# Altium schematic symbol library Regulator_Switching.SchLib: 1279 symbols (part 5 of 14)
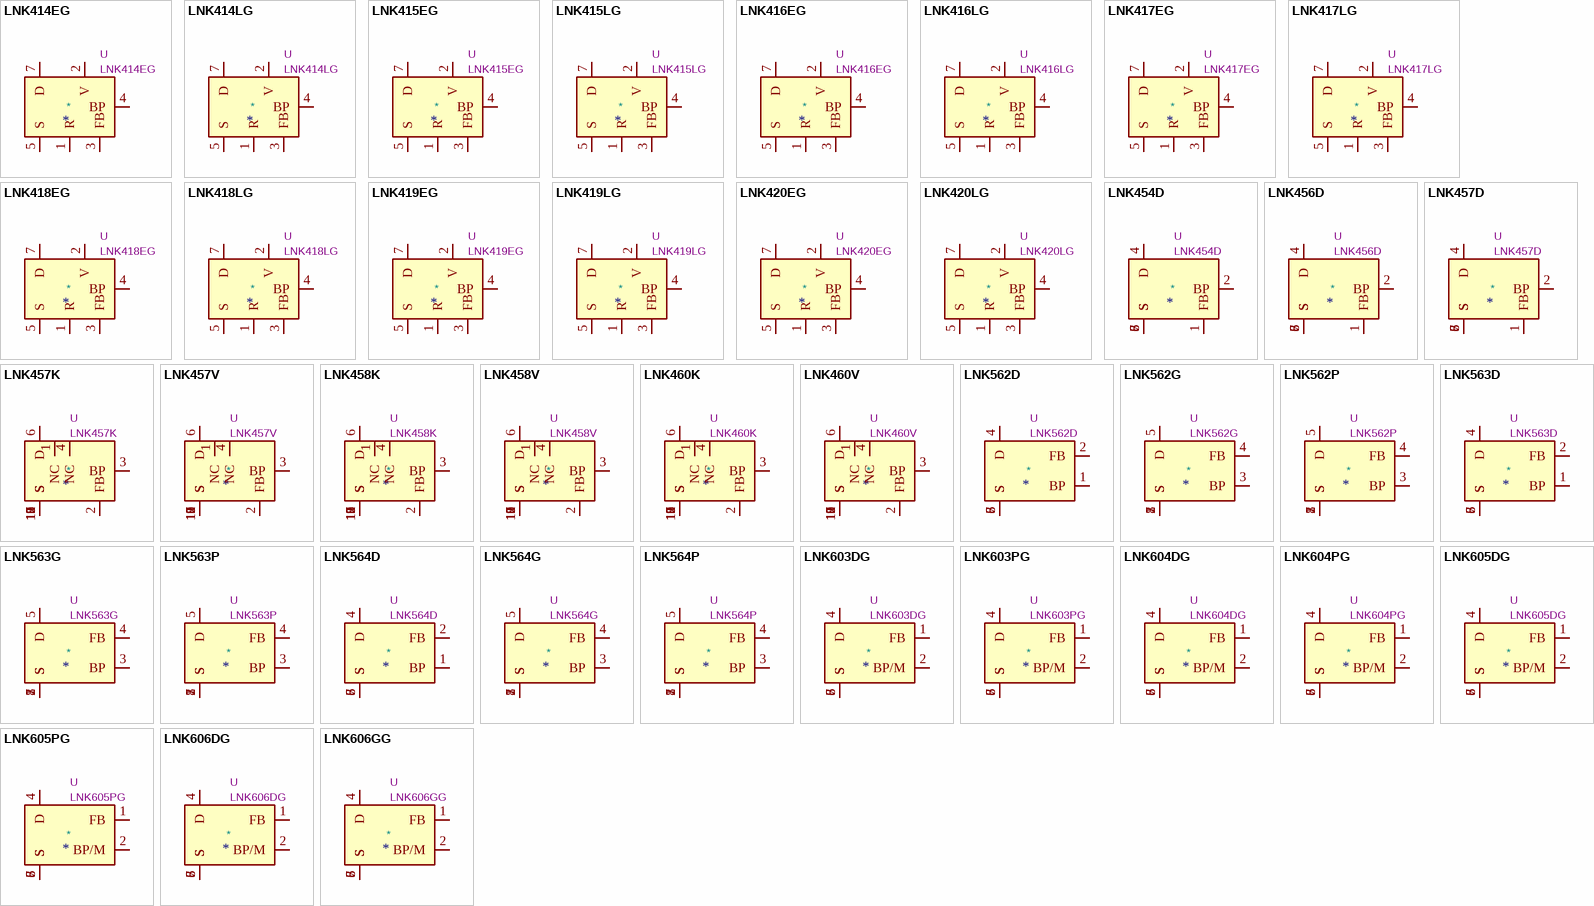
[diagram p36: symbols LNK414EG to LNK606GG]

## LNK416LG
designator *  value LNK416LG  Reference: U
LinkSwitch-PH Family, 22W Output Power, eSIP-7F; ki_keywords: LED Driver IC, Single-Stage PFC and Primary-Side Constant Current Control; ki_fp_filters: PowerIntegrations?eSIP?7F*; Footprint: Package_SIP:PowerIntegrations_eSIP-7F; Datasheet: http://www.powerint.com/sites/default/files/product-docs/linkswitch-ph_family_datasheet.pdf; Description_: LinkSwitch-PH Family, 22W Output Power, eSIP-7F
pins: 1 R, 2 V, 3 FB, 4 BP, 5 S, 7 D

## LNK417EG
designator *  value LNK417EG  Reference: U
LinkSwitch-PH Family, 25W Output Power, eSIP-7C; ki_keywords: LED Driver IC, Single-Stage PFC and Primary-Side Constant Current Control; ki_fp_filters: PowerIntegrations?eSIP?7C*; Footprint: Package_SIP:PowerIntegrations_eSIP-7C; Datasheet: http://www.powerint.com/sites/default/files/product-docs/linkswitch-ph_family_datasheet.pdf; Description_: LinkSwitch-PH Family, 25W Output Power, eSIP-7C
pins: 1 R, 2 V, 3 FB, 4 BP, 5 S, 7 D

## LNK417LG
designator *  value LNK417LG  Reference: U
LinkSwitch-PH Family, 25W Output Power, eSIP-7F; ki_keywords: LED Driver IC, Single-Stage PFC and Primary-Side Constant Current Control; ki_fp_filters: PowerIntegrations?eSIP?7F*; Footprint: Package_SIP:PowerIntegrations_eSIP-7F; Datasheet: http://www.powerint.com/sites/default/files/product-docs/linkswitch-ph_family_datasheet.pdf; Description_: LinkSwitch-PH Family, 25W Output Power, eSIP-7F
pins: 1 R, 2 V, 3 FB, 4 BP, 5 S, 7 D

## LNK418EG
designator *  value LNK418EG  Reference: U
LinkSwitch-PH Family, 35W Output Power, eSIP-7C; ki_keywords: LED Driver IC, Single-Stage PFC and Primary-Side Constant Current Control; ki_fp_filters: PowerIntegrations?eSIP?7C*; Footprint: Package_SIP:PowerIntegrations_eSIP-7C; Datasheet: http://www.powerint.com/sites/default/files/product-docs/linkswitch-ph_family_datasheet.pdf; Description_: LinkSwitch-PH Family, 35W Output Power, eSIP-7C
pins: 1 R, 2 V, 3 FB, 4 BP, 5 S, 7 D

## LNK418LG
designator *  value LNK418LG  Reference: U
LinkSwitch-PH Family, 35W Output Power, eSIP-7F; ki_keywords: LED Driver IC, Single-Stage PFC and Primary-Side Constant Current Control; ki_fp_filters: PowerIntegrations?eSIP?7F*; Footprint: Package_SIP:PowerIntegrations_eSIP-7F; Datasheet: http://www.powerint.com/sites/default/files/product-docs/linkswitch-ph_family_datasheet.pdf; Description_: LinkSwitch-PH Family, 35W Output Power, eSIP-7F
pins: 1 R, 2 V, 3 FB, 4 BP, 5 S, 7 D

## LNK419EG
designator *  value LNK419EG  Reference: U
LinkSwitch-PH Family, 50W Output Power, eSIP-7C; ki_keywords: LED Driver IC, Single-Stage PFC and Primary-Side Constant Current Control; ki_fp_filters: PowerIntegrations?eSIP?7C*; Footprint: Package_SIP:PowerIntegrations_eSIP-7C; Datasheet: http://www.powerint.com/sites/default/files/product-docs/linkswitch-ph_family_datasheet.pdf; Description_: LinkSwitch-PH Family, 50W Output Power, eSIP-7C
pins: 1 R, 2 V, 3 FB, 4 BP, 5 S, 7 D

## LNK419LG
designator *  value LNK419LG  Reference: U
LinkSwitch-PH Family, 50W Output Power, eSIP-7F; ki_keywords: LED Driver IC, Single-Stage PFC and Primary-Side Constant Current Control; ki_fp_filters: PowerIntegrations?eSIP?7F*; Footprint: Package_SIP:PowerIntegrations_eSIP-7F; Datasheet: http://www.powerint.com/sites/default/files/product-docs/linkswitch-ph_family_datasheet.pdf; Description_: LinkSwitch-PH Family, 50W Output Power, eSIP-7F
pins: 1 R, 2 V, 3 FB, 4 BP, 5 S, 7 D

## LNK420EG
designator *  value LNK420EG  Reference: U
LinkSwitch-PH Family, 78W Output Power, eSIP-7C; ki_keywords: LED Driver IC, Single-Stage PFC and Primary-Side Constant Current Control; ki_fp_filters: PowerIntegrations?eSIP?7C*; Footprint: Package_SIP:PowerIntegrations_eSIP-7C; Datasheet: http://www.powerint.com/sites/default/files/product-docs/linkswitch-ph_family_datasheet.pdf; Description_: LinkSwitch-PH Family, 78W Output Power, eSIP-7C
pins: 1 R, 2 V, 3 FB, 4 BP, 5 S, 7 D

## LNK420LG
designator *  value LNK420LG  Reference: U
LinkSwitch-PH Family, 78W Output Power, eSIP-7F; ki_keywords: LED Driver IC, Single-Stage PFC and Primary-Side Constant Current Control; ki_fp_filters: PowerIntegrations?eSIP?7F*; Footprint: Package_SIP:PowerIntegrations_eSIP-7F; Datasheet: http://www.powerint.com/sites/default/files/product-docs/linkswitch-ph_family_datasheet.pdf; Description_: LinkSwitch-PH Family, 78W Output Power, eSIP-7F
pins: 1 R, 2 V, 3 FB, 4 BP, 5 S, 7 D

## LNK454D
designator *  value LNK454D  Reference: U
LinkSwitch-PL Family, 3W Output Power, SO-8C; ki_keywords: LED Driver IC with TRIAC Dimming, Single-Stage PFC and Constant Current Control for Non-Isolated Applications; ki_fp_filters: PowerIntegrations?SO?8C*; Footprint: Package_SO:PowerIntegrations_SO-8C; Datasheet: http://www.powerint.com/sites/default/files/product-docs/linkswitch-pl_family_datasheet.pdf; Description_: LinkSwitch-PL Family, 3W Output Power, SO-8C
pins: 1 FB, 2 BP, 4 D, 5 S, 6 S, 7 S, 8 S

## LNK456D
designator *  value LNK456D  Reference: U
LinkSwitch-PL Family, 6W Output Power, SO-8C; ki_keywords: LED Driver IC with TRIAC Dimming, Single-Stage PFC and Constant Current Control for Non-Isolated Applications; ki_fp_filters: PowerIntegrations?SO?8C*; Footprint: Package_SO:PowerIntegrations_SO-8C; Datasheet: http://www.powerint.com/sites/default/files/product-docs/linkswitch-pl_family_datasheet.pdf; Description_: LinkSwitch-PL Family, 6W Output Power, SO-8C
pins: 1 FB, 2 BP, 4 D, 5 S, 6 S, 7 S, 8 S

## LNK457D
designator *  value LNK457D  Reference: U
LinkSwitch-PL Family, 8W Output Power, SO-8C; ki_keywords: LED Driver IC with TRIAC Dimming, Single-Stage PFC and Constant Current Control for Non-Isolated Applications; ki_fp_filters: PowerIntegrations?SO?8C*; Footprint: Package_SO:PowerIntegrations_SO-8C; Datasheet: http://www.powerint.com/sites/default/files/product-docs/linkswitch-pl_family_datasheet.pdf; Description_: LinkSwitch-PL Family, 8W Output Power, SO-8C
pins: 1 FB, 2 BP, 4 D, 5 S, 6 S, 7 S, 8 S

## LNK457K
designator *  value LNK457K  Reference: U
LinkSwitch-PL Family, 8W Output Power, eSOP-12B; ki_keywords: LED Driver IC with TRIAC Dimming, Single-Stage PFC and Constant Current Control for Non-Isolated Applications; ki_fp_filters: PowerIntegrations?eSOP?12B*; Footprint: Package_SO:PowerIntegrations_eSOP-12B; Datasheet: http://www.powerint.com/sites/default/files/product-docs/linkswitch-pl_family_datasheet.pdf; Description_: LinkSwitch-PL Family, 8W Output Power, eSOP-12B
pins: 1 NC, 2 FB, 3 BP, 4 NC, 6 D, 7 S, 8 S, 9 S, 10 S, 11 S, 12 S, 13 S

## LNK457V
designator *  value LNK457V  Reference: U
LinkSwitch-PL Family, 8W Output Power, eDIP-12B; ki_keywords: LED Driver IC with TRIAC Dimming, Single-Stage PFC and Constant Current Control for Non-Isolated Applications; ki_fp_filters: PowerIntegrations?eDIP?12B*; Footprint: Package_DIP:PowerIntegrations_eDIP-12B; Datasheet: http://www.powerint.com/sites/default/files/product-docs/linkswitch-pl_family_datasheet.pdf; Description_: LinkSwitch-PL Family, 8W Output Power, eDIP-12B
pins: 1 NC, 2 FB, 3 BP, 4 NC, 6 D, 7 S, 8 S, 9 S, 10 S, 11 S, 12 S

## LNK458K
designator *  value LNK458K  Reference: U
LinkSwitch-PL Family, 11.5W Output Power, eSOP-12B; ki_keywords: LED Driver IC with TRIAC Dimming, Single-Stage PFC and Constant Current Control for Non-Isolated Applications; ki_fp_filters: PowerIntegrations?eSOP?12B*; Footprint: Package_SO:PowerIntegrations_eSOP-12B; Datasheet: http://www.powerint.com/sites/default/files/product-docs/linkswitch-pl_family_datasheet.pdf; Description_: LinkSwitch-PL Family, 11.5W Output Power, eSOP-12B
pins: 1 NC, 2 FB, 3 BP, 4 NC, 6 D, 7 S, 8 S, 9 S, 10 S, 11 S, 12 S, 13 S

## LNK458V
designator *  value LNK458V  Reference: U
LinkSwitch-PL Family, 8W Output Power, eDIP-12B; ki_keywords: LED Driver IC with TRIAC Dimming, Single-Stage PFC and Constant Current Control for Non-Isolated Applications; ki_fp_filters: PowerIntegrations?eDIP?12B*; Footprint: Package_DIP:PowerIntegrations_eDIP-12B; Datasheet: http://www.powerint.com/sites/default/files/product-docs/linkswitch-pl_family_datasheet.pdf; Description_: LinkSwitch-PL Family, 8W Output Power, eDIP-12B
pins: 1 NC, 2 FB, 3 BP, 4 NC, 6 D, 7 S, 8 S, 9 S, 10 S, 11 S, 12 S

## LNK460K
designator *  value LNK460K  Reference: U
LinkSwitch-PL Family, 16W Output Power, eSOP-12B; ki_keywords: LED Driver IC with TRIAC Dimming, Single-Stage PFC and Constant Current Control for Non-Isolated Applications; ki_fp_filters: PowerIntegrations?eSOP?12B*; Footprint: Package_SO:PowerIntegrations_eSOP-12B; Datasheet: http://www.powerint.com/sites/default/files/product-docs/linkswitch-pl_family_datasheet.pdf; Description_: LinkSwitch-PL Family, 16W Output Power, eSOP-12B
pins: 1 NC, 2 FB, 3 BP, 4 NC, 6 D, 7 S, 8 S, 9 S, 10 S, 11 S, 12 S, 13 S

## LNK460V
designator *  value LNK460V  Reference: U
LinkSwitch-PL Family, 8W Output Power, eDIP-12B; ki_keywords: LED Driver IC with TRIAC Dimming, Single-Stage PFC and Constant Current Control for Non-Isolated Applications; ki_fp_filters: PowerIntegrations?eDIP?12B*; Footprint: Package_DIP:PowerIntegrations_eDIP-12B; Datasheet: http://www.powerint.com/sites/default/files/product-docs/linkswitch-pl_family_datasheet.pdf; Description_: LinkSwitch-PL Family, 8W Output Power, eDIP-12B
pins: 1 NC, 2 FB, 3 BP, 4 NC, 6 D, 7 S, 8 S, 9 S, 10 S, 11 S, 12 S

## LNK562D
designator *  value LNK562D  Reference: U
LinkSwitch-LP Family, 1.9W Output Power, SO-8C; ki_keywords: Energy Efficient Off-Line Switcher IC for Linear Transformer Replacement; ki_fp_filters: PowerIntegrations?SO?8C*; Footprint: Package_SO:PowerIntegrations_SO-8C; Datasheet: http://www.powerint.com/sites/default/files/product-docs/linklp_family_datasheet.pdf; Description_: LinkSwitch-LP Family, 1.9W Output Power, SO-8C
pins: 1 BP, 2 FB, 4 D, 5 S, 6 S, 7 S, 8 S

## LNK562G
designator *  value LNK562G  Reference: U
LinkSwitch-LP Family, 1.9W Output Power, SMD-8B; ki_keywords: Energy Efficient Off-Line Switcher IC for Linear Transformer Replacement; ki_fp_filters: PowerIntegrations?SMD?8B*; Footprint: Package_DIP:PowerIntegrations_SMD-8B; Datasheet: http://www.powerint.com/sites/default/files/product-docs/linklp_family_datasheet.pdf; Description_: LinkSwitch-LP Family, 1.9W Output Power, SMD-8B
pins: 1 S, 2 S, 3 BP, 4 FB, 5 D, 7 S, 8 S

## LNK562P
designator *  value LNK562P  Reference: U
LinkSwitch-LP Family, 1.9W Output Power, DIP-8B; ki_keywords: Energy Efficient Off-Line Switcher IC for Linear Transformer Replacement; ki_fp_filters: PowerIntegrations?PDIP?8B*; Footprint: Package_DIP:PowerIntegrations_PDIP-8B; Datasheet: http://www.powerint.com/sites/default/files/product-docs/linklp_family_datasheet.pdf; Description_: LinkSwitch-LP Family, 1.9W Output Power, DIP-8B
pins: 1 S, 2 S, 3 BP, 4 FB, 5 D, 7 S, 8 S

## LNK563D
designator *  value LNK563D  Reference: U
LinkSwitch-LP Family, 2.5W Output Power, SO-8C; ki_keywords: Energy Efficient Off-Line Switcher IC for Linear Transformer Replacement; ki_fp_filters: PowerIntegrations?SO?8C*; Footprint: Package_SO:PowerIntegrations_SO-8C; Datasheet: http://www.powerint.com/sites/default/files/product-docs/linklp_family_datasheet.pdf; Description_: LinkSwitch-LP Family, 2.5W Output Power, SO-8C
pins: 1 BP, 2 FB, 4 D, 5 S, 6 S, 7 S, 8 S

## LNK563G
designator *  value LNK563G  Reference: U
LinkSwitch-LP Family, 2.5W Output Power, SMD-8B; ki_keywords: Energy Efficient Off-Line Switcher IC for Linear Transformer Replacement; ki_fp_filters: PowerIntegrations?SMD?8B*; Footprint: Package_DIP:PowerIntegrations_SMD-8B; Datasheet: http://www.powerint.com/sites/default/files/product-docs/linklp_family_datasheet.pdf; Description_: LinkSwitch-LP Family, 2.5W Output Power, SMD-8B
pins: 1 S, 2 S, 3 BP, 4 FB, 5 D, 7 S, 8 S

## LNK563P
designator *  value LNK563P  Reference: U
LinkSwitch-LP Family, 2.5W Output Power, DIP-8B; ki_keywords: Energy Efficient Off-Line Switcher IC for Linear Transformer Replacement; ki_fp_filters: PowerIntegrations?PDIP?8B*; Footprint: Package_DIP:PowerIntegrations_PDIP-8B; Datasheet: http://www.powerint.com/sites/default/files/product-docs/linklp_family_datasheet.pdf; Description_: LinkSwitch-LP Family, 2.5W Output Power, DIP-8B
pins: 1 S, 2 S, 3 BP, 4 FB, 5 D, 7 S, 8 S

## LNK564D
designator *  value LNK564D  Reference: U
LinkSwitch-LP Family, 3W Output Power, SO-8C; ki_keywords: Energy Efficient Off-Line Switcher IC for Linear Transformer Replacement; ki_fp_filters: PowerIntegrations?SO?8C*; Footprint: Package_SO:PowerIntegrations_SO-8C; Datasheet: http://www.powerint.com/sites/default/files/product-docs/linklp_family_datasheet.pdf; Description_: LinkSwitch-LP Family, 3W Output Power, SO-8C
pins: 1 BP, 2 FB, 4 D, 5 S, 6 S, 7 S, 8 S

## LNK564G
designator *  value LNK564G  Reference: U
LinkSwitch-LP Family, 3W Output Power, SMD-8B; ki_keywords: Energy Efficient Off-Line Switcher IC for Linear Transformer Replacement; ki_fp_filters: PowerIntegrations?SMD?8B*; Footprint: Package_DIP:PowerIntegrations_SMD-8B; Datasheet: http://www.powerint.com/sites/default/files/product-docs/linklp_family_datasheet.pdf; Description_: LinkSwitch-LP Family, 3W Output Power, SMD-8B
pins: 1 S, 2 S, 3 BP, 4 FB, 5 D, 7 S, 8 S

## LNK564P
designator *  value LNK564P  Reference: U
LinkSwitch-LP Family, 3W Output Power, DIP-8B; ki_keywords: Energy Efficient Off-Line Switcher IC for Linear Transformer Replacement; ki_fp_filters: PowerIntegrations?PDIP?8B*; Footprint: Package_DIP:PowerIntegrations_PDIP-8B; Datasheet: http://www.powerint.com/sites/default/files/product-docs/linklp_family_datasheet.pdf; Description_: LinkSwitch-LP Family, 3W Output Power, DIP-8B
pins: 1 S, 2 S, 3 BP, 4 FB, 5 D, 7 S, 8 S

## LNK603DG
designator *  value LNK603DG  Reference: U
LinkSwitch-II Family, 3.3W Output Power, SO-8C; ki_keywords: Energy-Efficient, Accurate CV/CC Switcher for Adapters and Chargers; ki_fp_filters: PowerIntegrations?SO?8C*; Footprint: Package_SO:PowerIntegrations_SO-8C; Datasheet: http://www.powerint.com/sites/default/files/product-docs/linkswitch-ii_family_datasheet.pdf; Description_: LinkSwitch-II Family, 3.3W Output Power, SO-8C
pins: 1 FB, 2 BP/M, 4 D, 5 S, 6 S, 7 S, 8 S

## LNK603PG
designator *  value LNK603PG  Reference: U
LinkSwitch-II Family, 3.3W Output Power, DIP-8C; ki_keywords: Energy-Efficient, Accurate CV/CC Switcher for Adapters and Chargers; ki_fp_filters: PowerIntegrations?PDIP?8C*; Footprint: Package_DIP:PowerIntegrations_PDIP-8C; Datasheet: http://www.powerint.com/sites/default/files/product-docs/linkswitch-ii_family_datasheet.pdf; Description_: LinkSwitch-II Family, 3.3W Output Power, DIP-8C
pins: 1 FB, 2 BP/M, 4 D, 5 S, 6 S, 7 S, 8 S

## LNK604DG
designator *  value LNK604DG  Reference: U
LinkSwitch-II Family, 4.1W Output Power, SO-8C; ki_keywords: Energy-Efficient, Accurate CV/CC Switcher for Adapters and Chargers; ki_fp_filters: PowerIntegrations?SO?8C*; Footprint: Package_SO:PowerIntegrations_SO-8C; Datasheet: http://www.powerint.com/sites/default/files/product-docs/linkswitch-ii_family_datasheet.pdf; Description_: LinkSwitch-II Family, 4.1W Output Power, SO-8C
pins: 1 FB, 2 BP/M, 4 D, 5 S, 6 S, 7 S, 8 S

## LNK604PG
designator *  value LNK604PG  Reference: U
LinkSwitch-II Family, 4.1W Output Power, DIP-8C; ki_keywords: Energy-Efficient, Accurate CV/CC Switcher for Adapters and Chargers; ki_fp_filters: PowerIntegrations?PDIP?8C*; Footprint: Package_DIP:PowerIntegrations_PDIP-8C; Datasheet: http://www.powerint.com/sites/default/files/product-docs/linkswitch-ii_family_datasheet.pdf; Description_: LinkSwitch-II Family, 4.1W Output Power, DIP-8C
pins: 1 FB, 2 BP/M, 4 D, 5 S, 6 S, 7 S, 8 S

## LNK605DG
designator *  value LNK605DG  Reference: U
LinkSwitch-II Family, 5.1W Output Power, SO-8C; ki_keywords: Energy-Efficient, Accurate CV/CC Switcher for Adapters and Chargers; ki_fp_filters: PowerIntegrations?SO?8C*; Footprint: Package_SO:PowerIntegrations_SO-8C; Datasheet: http://www.powerint.com/sites/default/files/product-docs/linkswitch-ii_family_datasheet.pdf; Description_: LinkSwitch-II Family, 5.1W Output Power, SO-8C
pins: 1 FB, 2 BP/M, 4 D, 5 S, 6 S, 7 S, 8 S

## LNK605PG
designator *  value LNK605PG  Reference: U
LinkSwitch-II Family, 5.1W Output Power, DIP-8C; ki_keywords: Energy-Efficient, Accurate CV/CC Switcher for Adapters and Chargers; ki_fp_filters: PowerIntegrations?PDIP?8C*; Footprint: Package_DIP:PowerIntegrations_PDIP-8C; Datasheet: http://www.powerint.com/sites/default/files/product-docs/linkswitch-ii_family_datasheet.pdf; Description_: LinkSwitch-II Family, 5.1W Output Power, DIP-8C
pins: 1 FB, 2 BP/M, 4 D, 5 S, 6 S, 7 S, 8 S

## LNK606DG
designator *  value LNK606DG  Reference: U
LinkSwitch-II Family, 6.1W Output Power, SO-8C; ki_keywords: Energy-Efficient, Accurate CV/CC Switcher for Adapters and Chargers; ki_fp_filters: PowerIntegrations?SO?8C*; Footprint: Package_SO:PowerIntegrations_SO-8C; Datasheet: http://www.powerint.com/sites/default/files/product-docs/linkswitch-ii_family_datasheet.pdf; Description_: LinkSwitch-II Family, 6.1W Output Power, SO-8C
pins: 1 FB, 2 BP/M, 4 D, 5 S, 6 S, 7 S, 8 S

## LNK606GG
designator *  value LNK606GG  Reference: U
LinkSwitch-II Family, 6.1W Output Power, SMD-8C; ki_keywords: Energy-Efficient, Accurate CV/CC Switcher for Adapters and Chargers; ki_fp_filters: PowerIntegrations?SMD?8C*; Footprint: Package_DIP:PowerIntegrations_SMD-8C; Datasheet: http://www.powerint.com/sites/default/files/product-docs/linkswitch-ii_family_datasheet.pdf; Description_: LinkSwitch-II Family, 6.1W Output Power, SMD-8C
pins: 1 FB, 2 BP/M, 4 D, 5 S, 6 S, 7 S, 8 S

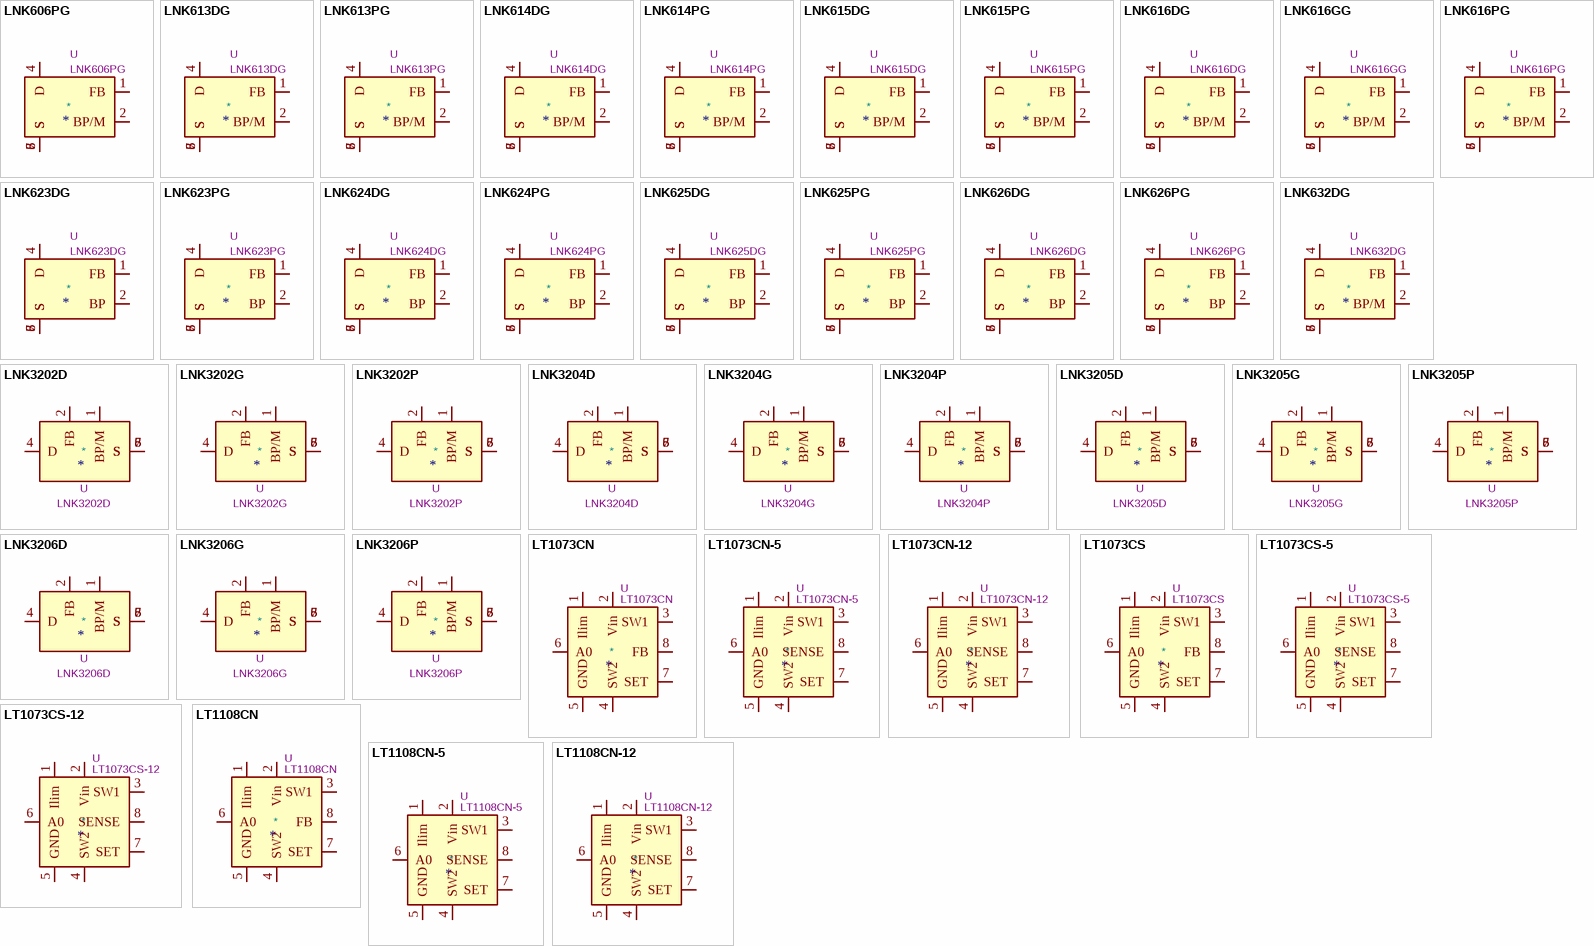
[diagram p11: symbols LNK606PG to LT1108CN-12]

## LNK606PG
designator *  value LNK606PG  Reference: U
LinkSwitch-II Family, 6.1W Output Power, DIP-8C; ki_keywords: Energy-Efficient, Accurate CV/CC Switcher for Adapters and Chargers; ki_fp_filters: PowerIntegrations?PDIP?8C*; Footprint: Package_DIP:PowerIntegrations_PDIP-8C; Datasheet: http://www.powerint.com/sites/default/files/product-docs/linkswitch-ii_family_datasheet.pdf; Description_: LinkSwitch-II Family, 6.1W Output Power, DIP-8C
pins: 1 FB, 2 BP/M, 4 D, 5 S, 6 S, 7 S, 8 S

## LNK613DG
designator *  value LNK613DG  Reference: U
LinkSwitch-II Family, 3.3W Output Power, SO-8C; ki_keywords: Energy-Efficient, Accurate CV/CC Switcher for Adapters and Chargers; ki_fp_filters: PowerIntegrations?SO?8C*; Footprint: Package_SO:PowerIntegrations_SO-8C; Datasheet: http://www.powerint.com/sites/default/files/product-docs/linkswitch-ii_family_datasheet.pdf; Description_: LinkSwitch-II Family, 3.3W Output Power, SO-8C
pins: 1 FB, 2 BP/M, 4 D, 5 S, 6 S, 7 S, 8 S

## LNK613PG
designator *  value LNK613PG  Reference: U
LinkSwitch-II Family, 3.3W Output Power, DIP-8C; ki_keywords: Energy-Efficient, Accurate CV/CC Switcher for Adapters and Chargers; ki_fp_filters: PowerIntegrations?PDIP?8C*; Footprint: Package_DIP:PowerIntegrations_PDIP-8C; Datasheet: http://www.powerint.com/sites/default/files/product-docs/linkswitch-ii_family_datasheet.pdf; Description_: LinkSwitch-II Family, 3.3W Output Power, DIP-8C
pins: 1 FB, 2 BP/M, 4 D, 5 S, 6 S, 7 S, 8 S

## LNK614DG
designator *  value LNK614DG  Reference: U
LinkSwitch-II Family, 4.1W Output Power, SO-8C; ki_keywords: Energy-Efficient, Accurate CV/CC Switcher for Adapters and Chargers; ki_fp_filters: PowerIntegrations?SO?8C*; Footprint: Package_SO:PowerIntegrations_SO-8C; Datasheet: http://www.powerint.com/sites/default/files/product-docs/linkswitch-ii_family_datasheet.pdf; Description_: LinkSwitch-II Family, 4.1W Output Power, SO-8C
pins: 1 FB, 2 BP/M, 4 D, 5 S, 6 S, 7 S, 8 S

## LNK614PG
designator *  value LNK614PG  Reference: U
LinkSwitch-II Family, 4.1W Output Power, DIP-8C; ki_keywords: Energy-Efficient, Accurate CV/CC Switcher for Adapters and Chargers; ki_fp_filters: PowerIntegrations?PDIP?8C*; Footprint: Package_DIP:PowerIntegrations_PDIP-8C; Datasheet: http://www.powerint.com/sites/default/files/product-docs/linkswitch-ii_family_datasheet.pdf; Description_: LinkSwitch-II Family, 4.1W Output Power, DIP-8C
pins: 1 FB, 2 BP/M, 4 D, 5 S, 6 S, 7 S, 8 S

## LNK615DG
designator *  value LNK615DG  Reference: U
LinkSwitch-II Family, 5.1W Output Power, SO-8C; ki_keywords: Energy-Efficient, Accurate CV/CC Switcher for Adapters and Chargers; ki_fp_filters: PowerIntegrations?SO?8C*; Footprint: Package_SO:PowerIntegrations_SO-8C; Datasheet: http://www.powerint.com/sites/default/files/product-docs/linkswitch-ii_family_datasheet.pdf; Description_: LinkSwitch-II Family, 5.1W Output Power, SO-8C
pins: 1 FB, 2 BP/M, 4 D, 5 S, 6 S, 7 S, 8 S

## LNK615PG
designator *  value LNK615PG  Reference: U
LinkSwitch-II Family, 5.1W Output Power, DIP-8C; ki_keywords: Energy-Efficient, Accurate CV/CC Switcher for Adapters and Chargers; ki_fp_filters: PowerIntegrations?PDIP?8C*; Footprint: Package_DIP:PowerIntegrations_PDIP-8C; Datasheet: http://www.powerint.com/sites/default/files/product-docs/linkswitch-ii_family_datasheet.pdf; Description_: LinkSwitch-II Family, 5.1W Output Power, DIP-8C
pins: 1 FB, 2 BP/M, 4 D, 5 S, 6 S, 7 S, 8 S

## LNK616DG
designator *  value LNK616DG  Reference: U
LinkSwitch-II Family, 6.1W Output Power, SO-8C; ki_keywords: Energy-Efficient, Accurate CV/CC Switcher for Adapters and Chargers; ki_fp_filters: PowerIntegrations?SO?8C*; Footprint: Package_SO:PowerIntegrations_SO-8C; Datasheet: http://www.powerint.com/sites/default/files/product-docs/linkswitch-ii_family_datasheet.pdf; Description_: LinkSwitch-II Family, 6.1W Output Power, SO-8C
pins: 1 FB, 2 BP/M, 4 D, 5 S, 6 S, 7 S, 8 S

## LNK616GG
designator *  value LNK616GG  Reference: U
LinkSwitch-II Family, 6.1W Output Power, SMD-8C; ki_keywords: Energy-Efficient, Accurate CV/CC Switcher for Adapters and Chargers; ki_fp_filters: PowerIntegrations?SMD?8C*; Footprint: Package_DIP:PowerIntegrations_SMD-8C; Datasheet: http://www.powerint.com/sites/default/files/product-docs/linkswitch-ii_family_datasheet.pdf; Description_: LinkSwitch-II Family, 6.1W Output Power, SMD-8C
pins: 1 FB, 2 BP/M, 4 D, 5 S, 6 S, 7 S, 8 S

## LNK616PG
designator *  value LNK616PG  Reference: U
LinkSwitch-II Family, 6.1W Output Power, DIP-8C; ki_keywords: Energy-Efficient, Accurate CV/CC Switcher for Adapters and Chargers; ki_fp_filters: PowerIntegrations?PDIP?8C*; Footprint: Package_DIP:PowerIntegrations_PDIP-8C; Datasheet: http://www.powerint.com/sites/default/files/product-docs/linkswitch-ii_family_datasheet.pdf; Description_: LinkSwitch-II Family, 6.1W Output Power, DIP-8C
pins: 1 FB, 2 BP/M, 4 D, 5 S, 6 S, 7 S, 8 S

## LNK623DG
designator *  value LNK623DG  Reference: U
LinkSwitch-CV Family, 6W Output Power, SO-8C; ki_keywords: Energy-Efficient, Off-line Switcher with Accurate Primary-side Constant-Voltage Control; ki_fp_filters: PowerIntegrations?SO?8C*; Footprint: Package_SO:PowerIntegrations_SO-8C; Datasheet: http://www.powerint.com/sites/default/files/product-docs/linkcv_family_datasheet.pdf; Description_: LinkSwitch-CV Family, 6W Output Power, SO-8C
pins: 1 FB, 2 BP, 4 D, 5 S, 6 S, 7 S, 8 S

## LNK623PG
designator *  value LNK623PG  Reference: U
LinkSwitch-CV Family, 6W Output Power, DIP-8C; ki_keywords: Energy-Efficient, Off-line Switcher with Accurate Primary-side Constant-Voltage Control; ki_fp_filters: PowerIntegrations?PDIP?8C*; Footprint: Package_DIP:PowerIntegrations_PDIP-8C; Datasheet: http://www.powerint.com/sites/default/files/product-docs/linkcv_family_datasheet.pdf; Description_: LinkSwitch-CV Family, 6W Output Power, DIP-8C
pins: 1 FB, 2 BP, 4 D, 5 S, 6 S, 7 S, 8 S

## LNK624DG
designator *  value LNK624DG  Reference: U
LinkSwitch-CV Family, 6.5W Output Power, SO-8C; ki_keywords: Energy-Effi cient, Off-line Switcher with Accurate Primary-side Constant-Voltage Control; ki_fp_filters: PowerIntegrations?SO?8C*; Footprint: Package_SO:PowerIntegrations_SO-8C; Datasheet: http://www.powerint.com/sites/default/files/product-docs/linkcv_family_datasheet.pdf; Description_: LinkSwitch-CV Family, 6.5W Output Power, SO-8C
pins: 1 FB, 2 BP, 4 D, 5 S, 6 S, 7 S, 8 S

## LNK624PG
designator *  value LNK624PG  Reference: U
LinkSwitch-CV Family, 6.5W Output Power, DIP-8C; ki_keywords: Energy-Efficient, Off-line Switcher with Accurate Primary-side Constant-Voltage Control; ki_fp_filters: PowerIntegrations?PDIP?8C*; Footprint: Package_DIP:PowerIntegrations_PDIP-8C; Datasheet: http://www.powerint.com/sites/default/files/product-docs/linkcv_family_datasheet.pdf; Description_: LinkSwitch-CV Family, 6.5W Output Power, DIP-8C
pins: 1 FB, 2 BP, 4 D, 5 S, 6 S, 7 S, 8 S

## LNK625DG
designator *  value LNK625DG  Reference: U
LinkSwitch-CV Family, 8W Output Power, SO-8C; ki_keywords: Energy-Efficient, Off-line Switcher with Accurate Primary-side Constant-Voltage Control; ki_fp_filters: PowerIntegrations?SO?8C*; Footprint: Package_SO:PowerIntegrations_SO-8C; Datasheet: http://www.powerint.com/sites/default/files/product-docs/linkcv_family_datasheet.pdf; Description_: LinkSwitch-CV Family, 8W Output Power, SO-8C
pins: 1 FB, 2 BP, 4 D, 5 S, 6 S, 7 S, 8 S

## LNK625PG
designator *  value LNK625PG  Reference: U
LinkSwitch-CV Family, 8W Output Power, DIP-8C; ki_keywords: Energy-Efficient, Off-line Switcher with Accurate Primary-side Constant-Voltage Control; ki_fp_filters: PowerIntegrations?PDIP?8C*; Footprint: Package_DIP:PowerIntegrations_PDIP-8C; Datasheet: http://www.powerint.com/sites/default/files/product-docs/linkcv_family_datasheet.pdf; Description_: LinkSwitch-CV Family, 8W Output Power, DIP-8C
pins: 1 FB, 2 BP, 4 D, 5 S, 6 S, 7 S, 8 S

## LNK626DG
designator *  value LNK626DG  Reference: U
LinkSwitch-CV Family, 10W Output Power, SO-8C; ki_keywords: Energy-Efficient, Off-line Switcher with Accurate Primary-side Constant-Voltage Control; ki_fp_filters: PowerIntegrations?SO?8C*; Footprint: Package_SO:PowerIntegrations_SO-8C; Datasheet: http://www.powerint.com/sites/default/files/product-docs/linkcv_family_datasheet.pdf; Description_: LinkSwitch-CV Family, 10W Output Power, SO-8C
pins: 1 FB, 2 BP, 4 D, 5 S, 6 S, 7 S, 8 S

## LNK626PG
designator *  value LNK626PG  Reference: U
LinkSwitch-CV Family, 10W Output Power, DIP-8C; ki_keywords: Energy-Efficient, Off-line Switcher with Accurate Primary-side Constant-Voltage Control; ki_fp_filters: PowerIntegrations?PDIP?8C*; Footprint: Package_DIP:PowerIntegrations_PDIP-8C; Datasheet: http://www.powerint.com/sites/default/files/product-docs/linkcv_family_datasheet.pdf; Description_: LinkSwitch-CV Family, 10W Output Power, DIP-8C
pins: 1 FB, 2 BP, 4 D, 5 S, 6 S, 7 S, 8 S

## LNK632DG
designator *  value LNK632DG  Reference: U
LinkSwitch-II Family, 3.1W Output Power, SO-8C; ki_keywords: Energy-Efficient, Accurate CV Switcher With CC Control for Adapters and Chargers; ki_fp_filters: PowerIntegrations?SO?8C*; Footprint: Package_SO:PowerIntegrations_SO-8C; Datasheet: http://www.powerint.com/sites/default/files/product-docs/linkswitch-ii_632DG_datasheet.pdf; Description_: LinkSwitch-II Family, 3.1W Output Power, SO-8C
pins: 1 FB, 2 BP/M, 4 D, 5 S, 6 S, 7 S, 8 S

## LNK3202D
designator *  value LNK3202D  Reference: U
LinkSwitch-TN2 Family, 80mA Output Current, SO-8C; ki_keywords: Lowest Component Count, Energy-Efficient Off-Line Switcher IC; ki_fp_filters: PowerIntegrations?SO?8C*; Footprint: Package_SO:PowerIntegrations_SO-8C; Datasheet: https://ac-dc.power.com/sites/default/files/product-docs/LinkSwitch-TN2_family_datasheet.pdf; Description_: LinkSwitch-TN2 Family, 80mA Output Current, SO-8C
pins: 1 BP/M, 2 FB, 4 D, 5 S, 6 S, 7 S, 8 S

## LNK3202G
designator *  value LNK3202G  Reference: U
LinkSwitch-TN2 Family, 80mA Output Current, SMD-8C; ki_keywords: Lowest Component Count, Energy-Efficient Off-Line Switcher IC; ki_fp_filters: PowerIntegrations?SMD?8C*; Footprint: Package_DIP:PowerIntegrations_SMD-8C; Datasheet: https://ac-dc.power.com/sites/default/files/product-docs/LinkSwitch-TN2_family_datasheet.pdf; Description_: LinkSwitch-TN2 Family, 80mA Output Current, SMD-8C
pins: 1 BP/M, 2 FB, 4 D, 5 S, 6 S, 7 S, 8 S

## LNK3202P
designator *  value LNK3202P  Reference: U
LinkSwitch-TN2 Family, 80mA Output Current, DIP-8C; ki_keywords: Lowest Component Count, Energy-Efficient Off-Line Switcher IC; ki_fp_filters: PowerIntegrations?PDIP?8C*; Footprint: Package_DIP:PowerIntegrations_PDIP-8C; Datasheet: https://ac-dc.power.com/sites/default/files/product-docs/LinkSwitch-TN2_family_datasheet.pdf; Description_: LinkSwitch-TN2 Family, 80mA Output Current, DIP-8C
pins: 1 BP/M, 2 FB, 4 D, 5 S, 6 S, 7 S, 8 S

## LNK3204D
designator *  value LNK3204D  Reference: U
LinkSwitch-TN2 Family, 170mA Output Current, SO-8C; ki_keywords: Lowest Component Count, Energy-Efficient Off-Line Switcher IC; ki_fp_filters: PowerIntegrations?SO?8C*; Footprint: Package_SO:PowerIntegrations_SO-8C; Datasheet: https://ac-dc.power.com/sites/default/files/product-docs/LinkSwitch-TN2_family_datasheet.pdf; Description_: LinkSwitch-TN2 Family, 170mA Output Current, SO-8C
pins: 1 BP/M, 2 FB, 4 D, 5 S, 6 S, 7 S, 8 S

## LNK3204G
designator *  value LNK3204G  Reference: U
LinkSwitch-TN2 Family, 170mA Output Current, SMD-8C; ki_keywords: Lowest Component Count, Energy-Efficient Off-Line Switcher IC; ki_fp_filters: PowerIntegrations?SMD?8C*; Footprint: Package_DIP:PowerIntegrations_SMD-8C; Datasheet: https://ac-dc.power.com/sites/default/files/product-docs/LinkSwitch-TN2_family_datasheet.pdf; Description_: LinkSwitch-TN2 Family, 170mA Output Current, SMD-8C
pins: 1 BP/M, 2 FB, 4 D, 5 S, 6 S, 7 S, 8 S

## LNK3204P
designator *  value LNK3204P  Reference: U
LinkSwitch-TN2 Family, 170mA Output Current, DIP-8C; ki_keywords: Lowest Component Count, Energy-Efficient Off-Line Switcher IC; ki_fp_filters: PowerIntegrations?PDIP?8C*; Footprint: Package_DIP:PowerIntegrations_PDIP-8C; Datasheet: https://ac-dc.power.com/sites/default/files/product-docs/LinkSwitch-TN2_family_datasheet.pdf; Description_: LinkSwitch-TN2 Family, 170mA Output Current, DIP-8C
pins: 1 BP/M, 2 FB, 4 D, 5 S, 6 S, 7 S, 8 S

## LNK3205D
designator *  value LNK3205D  Reference: U
LinkSwitch-TN Family, 270mA Output Current, SO-8C; ki_keywords: Lowest Component Count, Energy-Efficient Off-Line Switcher IC; ki_fp_filters: PowerIntegrations?SO?8C*; Footprint: Package_SO:PowerIntegrations_SO-8C; Datasheet: https://ac-dc.power.com/sites/default/files/product-docs/LinkSwitch-TN2_family_datasheet.pdf; Description_: LinkSwitch-TN Family, 270mA Output Current, SO-8C
pins: 1 BP/M, 2 FB, 4 D, 5 S, 6 S, 7 S, 8 S

## LNK3205G
designator *  value LNK3205G  Reference: U
LinkSwitch-TN Family, 270mA Output Current, SMD-8C; ki_keywords: Lowest Component Count, Energy-Efficient Off-Line Switcher IC; ki_fp_filters: PowerIntegrations?SMD?8C*; Footprint: Package_DIP:PowerIntegrations_SMD-8C; Datasheet: https://ac-dc.power.com/sites/default/files/product-docs/LinkSwitch-TN2_family_datasheet.pdf; Description_: LinkSwitch-TN Family, 270mA Output Current, SMD-8C
pins: 1 BP/M, 2 FB, 4 D, 5 S, 6 S, 7 S, 8 S

## LNK3205P
designator *  value LNK3205P  Reference: U
LinkSwitch-TN Family, 270mA Output Current, DIP-8C; ki_keywords: Lowest Component Count, Energy-Efficient Off-Line Switcher IC; ki_fp_filters: PowerIntegrations?PDIP?8C*; Footprint: Package_DIP:PowerIntegrations_PDIP-8C; Datasheet: https://ac-dc.power.com/sites/default/files/product-docs/LinkSwitch-TN2_family_datasheet.pdf; Description_: LinkSwitch-TN Family, 270mA Output Current, DIP-8C
pins: 1 BP/M, 2 FB, 4 D, 5 S, 6 S, 7 S, 8 S

## LNK3206D
designator *  value LNK3206D  Reference: U
LinkSwitch-TN2 Family, 360mA Output Current, SO-8C; ki_keywords: Lowest Component Count, Energy-Efficient Off-Line Switcher IC; ki_fp_filters: PowerIntegrations?SO?8C*; Footprint: Package_SO:PowerIntegrations_SO-8C; Datasheet: https://ac-dc.power.com/sites/default/files/product-docs/LinkSwitch-TN2_family_datasheet.pdf; Description_: LinkSwitch-TN2 Family, 360mA Output Current, SO-8C
pins: 1 BP/M, 2 FB, 4 D, 5 S, 6 S, 7 S, 8 S

## LNK3206G
designator *  value LNK3206G  Reference: U
LinkSwitch-TN2 Family, 360mA Output Current, SMD-8C; ki_keywords: Lowest Component Count, Energy-Efficient Off-Line Switcher IC; ki_fp_filters: PowerIntegrations?SMD?8C*; Footprint: Package_DIP:PowerIntegrations_SMD-8C; Datasheet: https://ac-dc.power.com/sites/default/files/product-docs/LinkSwitch-TN2_family_datasheet.pdf; Description_: LinkSwitch-TN2 Family, 360mA Output Current, SMD-8C
pins: 1 BP/M, 2 FB, 4 D, 5 S, 6 S, 7 S, 8 S

## LNK3206P
designator *  value LNK3206P  Reference: U
LinkSwitch-TN2 Family, 360mA Output Current, DIP-8B; ki_keywords: Lowest Component Count, Energy-Efficient Off-Line Switcher IC; ki_fp_filters: PowerIntegrations?PDIP?8C*; Footprint: Package_DIP:PowerIntegrations_PDIP-8C; Datasheet: https://ac-dc.power.com/sites/default/files/product-docs/LinkSwitch-TN2_family_datasheet.pdf; Description_: LinkSwitch-TN2 Family, 360mA Output Current, DIP-8B
pins: 1 BP/M, 2 FB, 4 D, 5 S, 6 S, 7 S, 8 S

## LT1073CN
designator *  value LT1073CN  Reference: U
Micropower DC/DC Converter Adjustable Output Voltage, DIP-8; ki_fp_filters: DIP*W7.62mm*; Footprint: Package_DIP:DIP-8_W7.62mm; Datasheet: https://www.analog.com/media/en/technical-documentation/data-sheets/1073fa.pdf; Description_: Micropower DC/DC Converter Adjustable Output Voltage, DIP-8; ki_keywords: Micropower DC/DC Converter
pins: 1 Ilim, 2 Vin, 3 SW1, 4 SW2, 5 GND, 6 A0, 7 SET, 8 FB

## LT1073CN-5
designator *  value LT1073CN-5  Reference: U
Micropower DC/DC Converter, Fixed 5V Output Voltage, DIP-8; ki_fp_filters: DIP*W7.62mm*; Footprint: Package_DIP:DIP-8_W7.62mm; Datasheet: https://www.analog.com/media/en/technical-documentation/data-sheets/1073fa.pdf; Description_: Micropower DC/DC Converter, Fixed 5V Output Voltage, DIP-8; ki_keywords: Micropower DC/DC Converter
pins: 1 Ilim, 2 Vin, 3 SW1, 4 SW2, 5 GND, 6 A0, 7 SET, 8 SENSE

## LT1073CN-12
designator *  value LT1073CN-12  Reference: U
Micropower DC/DC Converter, Fixed 12V Output Voltage, DIP-8; ki_fp_filters: DIP*W7.62mm*; Footprint: Package_DIP:DIP-8_W7.62mm; Datasheet: https://www.analog.com/media/en/technical-documentation/data-sheets/1073fa.pdf; Description_: Micropower DC/DC Converter, Fixed 12V Output Voltage, DIP-8; ki_keywords: Micropower DC/DC Converter
pins: 1 Ilim, 2 Vin, 3 SW1, 4 SW2, 5 GND, 6 A0, 7 SET, 8 SENSE

## LT1073CS
designator *  value LT1073CS  Reference: U
Micropower DC/DC Converter Adjustable Output Voltage, SO-8; ki_fp_filters: SOIC*3.9x4.9mm*; Footprint: Package_SO:SOIC-8_3.9x4.9mm_P1.27mm; Datasheet: https://www.analog.com/media/en/technical-documentation/data-sheets/1073fa.pdf; Description_: Micropower DC/DC Converter Adjustable Output Voltage, SO-8; ki_keywords: Micropower DC/DC Converter
pins: 1 Ilim, 2 Vin, 3 SW1, 4 SW2, 5 GND, 6 A0, 7 SET, 8 FB

## LT1073CS-5
designator *  value LT1073CS-5  Reference: U
Micropower DC/DC Converter, Fixed 5V Output Voltage, SO-8; ki_fp_filters: SOIC*3.9x4.9mm*P1.27mm*; Footprint: Package_SO:SOIC-8_3.9x4.9mm_P1.27mm; Datasheet: https://www.analog.com/media/en/technical-documentation/data-sheets/1073fa.pdf; Description_: Micropower DC/DC Converter, Fixed 5V Output Voltage, SO-8; ki_keywords: Micropower DC/DC Converter
pins: 1 Ilim, 2 Vin, 3 SW1, 4 SW2, 5 GND, 6 A0, 7 SET, 8 SENSE

## LT1073CS-12
designator *  value LT1073CS-12  Reference: U
Micropower DC/DC Converter, Fixed 12V Output Voltage, SO-8; ki_fp_filters: SOIC*3.9x4.9mm*P1.27mm*; Footprint: Package_SO:SOIC-8_3.9x4.9mm_P1.27mm; Datasheet: https://www.analog.com/media/en/technical-documentation/data-sheets/1073fa.pdf; Description_: Micropower DC/DC Converter, Fixed 12V Output Voltage, SO-8; ki_keywords: Micropower DC/DC Converter
pins: 1 Ilim, 2 Vin, 3 SW1, 4 SW2, 5 GND, 6 A0, 7 SET, 8 SENSE

## LT1108CN
designator *  value LT1108CN  Reference: U
Micropower DC-DC converter, step-up or step-down operation, 2V-30Vin, adjustable output voltage, DIP-8; ki_keywords: switching buck boost converter step-down step-up; ki_fp_filters: DIP*W7.62mm*; Footprint: Package_DIP:DIP-8_W7.62mm; Datasheet: https://www.analog.com/media/en/technical-documentation/data-sheets/lt1108.pdf; Description_: Micropower DC-DC converter, step-up or step-down operation, 2V-30Vin, adjustable output voltage, DIP-8
pins: 1 Ilim, 2 Vin, 3 SW1, 4 SW2, 5 GND, 6 A0, 7 SET, 8 FB

## LT1108CN-5
designator *  value LT1108CN-5  Reference: U
Micropower DC-DC converter, step-up or step-down operation, 2V-30Vin, fixed 5V output voltage, DIP-8; ki_keywords: switching buck boost converter step-down step-up; ki_fp_filters: DIP*W7.62mm*; Footprint: Package_DIP:DIP-8_W7.62mm; Datasheet: https://www.analog.com/media/en/technical-documentation/data-sheets/lt1108.pdf; Description_: Micropower DC-DC converter, step-up or step-down operation, 2V-30Vin, fixed 5V output voltage, DIP-8
pins: 1 Ilim, 2 Vin, 3 SW1, 4 SW2, 5 GND, 6 A0, 7 SET, 8 SENSE

## LT1108CN-12
designator *  value LT1108CN-12  Reference: U
Micropower DC-DC converter, step-up or step-down operation, 2V-30Vin, fixed 12V output voltage, DIP-8; ki_keywords: switching buck boost converter step-down step-up; ki_fp_filters: DIP*W7.62mm*; Footprint: Package_DIP:DIP-8_W7.62mm; Datasheet: https://www.analog.com/media/en/technical-documentation/data-sheets/lt1108.pdf; Description_: Micropower DC-DC converter, step-up or step-down operation, 2V-30Vin, fixed 12V output voltage, DIP-8
pins: 1 Ilim, 2 Vin, 3 SW1, 4 SW2, 5 GND, 6 A0, 7 SET, 8 SENSE

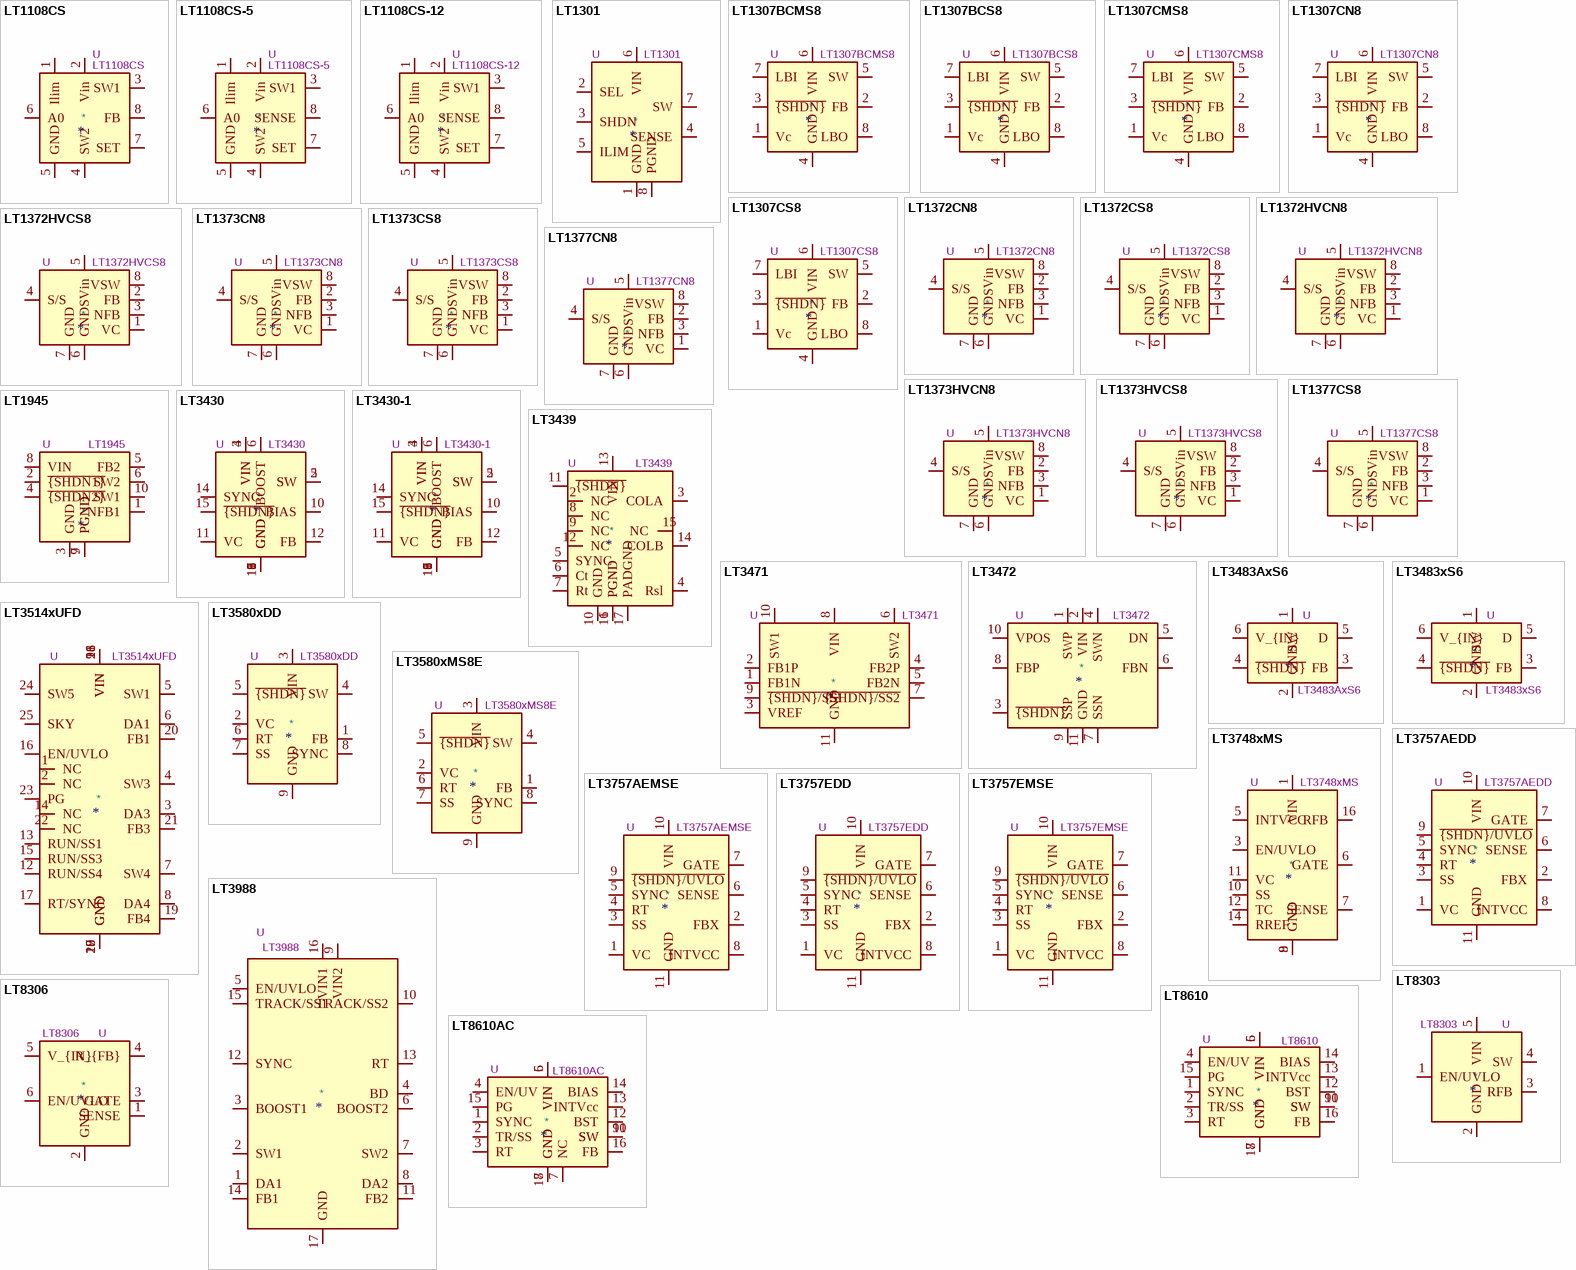
[diagram p12: symbols LT1108CS to LT8610AC]

## LT1108CS
designator *  value LT1108CS  Reference: U
Micropower DC-DC converter, step-up or step-down operation, 2V-30Vin, adjustable output voltage, SO-8; ki_keywords: switching buck boost converter step-down step-up; ki_fp_filters: SOIC*3.9x4.9mm*; Footprint: Package_SO:SOIC-8_3.9x4.9mm_P1.27mm; Datasheet: https://www.analog.com/media/en/technical-documentation/data-sheets/lt1108.pdf; Description_: Micropower DC-DC converter, step-up or step-down operation, 2V-30Vin, adjustable output voltage, SO-8
pins: 1 Ilim, 2 Vin, 3 SW1, 4 SW2, 5 GND, 6 A0, 7 SET, 8 FB

## LT1108CS-5
designator *  value LT1108CS-5  Reference: U
Micropower DC-DC converter, step-up or step-down operation, 2V-30Vin, fixed 5V output voltage, SO-8; ki_keywords: switching buck boost converter step-down step-up; ki_fp_filters: SOIC*3.9x4.9mm*P1.27mm*; Footprint: Package_SO:SOIC-8_3.9x4.9mm_P1.27mm; Datasheet: https://www.analog.com/media/en/technical-documentation/data-sheets/lt1108.pdf; Description_: Micropower DC-DC converter, step-up or step-down operation, 2V-30Vin, fixed 5V output voltage, SO-8
pins: 1 Ilim, 2 Vin, 3 SW1, 4 SW2, 5 GND, 6 A0, 7 SET, 8 SENSE

## LT1108CS-12
designator *  value LT1108CS-12  Reference: U
Micropower DC-DC converter, step-up or step-down operation, 2V-30Vin, fixed 12V output voltage, SO-8; ki_keywords: switching buck boost converter step-down step-up; ki_fp_filters: SOIC*3.9x4.9mm*P1.27mm*; Footprint: Package_SO:SOIC-8_3.9x4.9mm_P1.27mm; Datasheet: https://www.analog.com/media/en/technical-documentation/data-sheets/lt1108.pdf; Description_: Micropower DC-DC converter, step-up or step-down operation, 2V-30Vin, fixed 12V output voltage, SO-8
pins: 1 Ilim, 2 Vin, 3 SW1, 4 SW2, 5 GND, 6 A0, 7 SET, 8 SENSE

## LT1301
designator *  value LT1301  Reference: U
Micropower High Efficiency 5V/12V Step-Up DC/DC Converter for Flash Memory, DIP-8/SOIC-8; ki_keywords: 5v 12v dc converter boost; ki_fp_filters: DIP*7.62mm* SOIC*3.9x4.9mm*P1.27mm*; Datasheet: https://www.analog.com/media/en/technical-documentation/data-sheets/lt1301.pdf; Description_: Micropower High Efficiency 5V/12V Step-Up DC/DC Converter for Flash Memory, DIP-8/SOIC-8
pins: 1 GND, 2 SEL, 3 SHDN, 4 SENSE, 5 ILIM, 6 VIN, 7 SW, 8 PGND

## LT1307BCMS8
designator *  value LT1307BCMS8  Reference: U
Single Cell Micropower 600kHz PWM DC/DC Converter, 10µA Quiescent Current, MSOP-8; ki_keywords: Micropower PWM DC/DC Converter; ki_fp_filters: MSOP*3x3mm*P0.5mm*; Footprint: Package_SO:MSOP-10_3x3mm_P0.5mm; Datasheet: https://www.analog.com/media/en/technical-documentation/data-sheets/1307fa.pdf; Description_: Single Cell Micropower 600kHz PWM DC/DC Converter, 10µA Quiescent Current, MSOP-8
pins: 1 Vc, 2 FB, 3 ~{{SHDN}}, 4 GND, 5 SW, 6 VIN, 7 LBI, 8 LBO

## LT1307BCS8
designator *  value LT1307BCS8  Reference: U
Single Cell Micropower 600kHz PWM DC/DC Converter, 10µA Quiescent Current, SO-8; ki_keywords: Micropower PWM DC/DC Converter; ki_fp_filters: SOIC*3.9x4.9mm*P1.27mm*; Footprint: Package_SO:SOIC-8_3.9x4.9mm_P1.27mm; Datasheet: https://www.analog.com/media/en/technical-documentation/data-sheets/1307fa.pdf; Description_: Single Cell Micropower 600kHz PWM DC/DC Converter, 10µA Quiescent Current, SO-8
pins: 1 Vc, 2 FB, 3 ~{{SHDN}}, 4 GND, 5 SW, 6 VIN, 7 LBI, 8 LBO

## LT1307CMS8
designator *  value LT1307CMS8  Reference: U
Single Cell Micropower 600kHz PWM DC/DC Converter, 50µA Quiescent Current, MSOP-8; ki_keywords: Micropower PWM DC/DC Converter; ki_fp_filters: MSOP*3x3mm*P0.5mm*; Footprint: Package_SO:MSOP-10_3x3mm_P0.5mm; Datasheet: https://www.analog.com/media/en/technical-documentation/data-sheets/1307fa.pdf; Description_: Single Cell Micropower 600kHz PWM DC/DC Converter, 50µA Quiescent Current, MSOP-8
pins: 1 Vc, 2 FB, 3 ~{{SHDN}}, 4 GND, 5 SW, 6 VIN, 7 LBI, 8 LBO

## LT1307CN8
designator *  value LT1307CN8  Reference: U
Single Cell Micropower 600kHz PWM DC/DC Converter, 50µA Quiescent Current, DIP-8; ki_keywords: Micropower PWM DC/DC Converter; ki_fp_filters: DIP*W7.62mm*; Footprint: Package_DIP:DIP-8_W7.62mm; Datasheet: https://www.analog.com/media/en/technical-documentation/data-sheets/1307fa.pdf; Description_: Single Cell Micropower 600kHz PWM DC/DC Converter, 50µA Quiescent Current, DIP-8
pins: 1 Vc, 2 FB, 3 ~{{SHDN}}, 4 GND, 5 SW, 6 VIN, 7 LBI, 8 LBO

## LT1307CS8
designator *  value LT1307CS8  Reference: U
Single Cell Micropower 600kHz PWM DC/DC Converter, 50µA Quiescent Current, SO-8; ki_keywords: Micropower PWM DC/DC Converter; ki_fp_filters: SOIC*3.9x4.9mm*P1.27mm*; Footprint: Package_SO:SOIC-8_3.9x4.9mm_P1.27mm; Datasheet: https://www.analog.com/media/en/technical-documentation/data-sheets/1307fa.pdf; Description_: Single Cell Micropower 600kHz PWM DC/DC Converter, 50µA Quiescent Current, SO-8
pins: 1 Vc, 2 FB, 3 ~{{SHDN}}, 4 GND, 5 SW, 6 VIN, 7 LBI, 8 LBO

## LT1372CN8
designator *  value LT1372CN8  Reference: U
1.5A High Efficiency Switching Regulators, 500kHz, 35V Switch Voltage, Adjustable Output Voltage, DIP-8; ki_keywords: Switching Regulator Adjustable; ki_fp_filters: DIP*W7.62mm*; Footprint: Package_DIP:DIP-8_W7.62mm; Datasheet: https://www.analog.com/media/en/technical-documentation/data-sheets/13727fbs.pdf; Description_: 1.5A High Efficiency Switching Regulators, 500kHz, 35V Switch Voltage, Adjustable Output Voltage, DIP-8
pins: 1 VC, 2 FB, 3 NFB, 4 S/S, 5 Vin, 6 GNDS, 7 GND, 8 VSW

## LT1372CS8
designator *  value LT1372CS8  Reference: U
1.5A High Efficiency Switching Regulators, 500kHz, 35V Switch Voltage, Adjustable Output Voltage, SO-8; ki_keywords: Switching Regulator Adjustable; ki_fp_filters: SOIC*3.9x4.9mm*P1.27mm*; Footprint: Package_SO:SOIC-8_3.9x4.9mm_P1.27mm; Datasheet: https://www.analog.com/media/en/technical-documentation/data-sheets/13727fbs.pdf; Description_: 1.5A High Efficiency Switching Regulators, 500kHz, 35V Switch Voltage, Adjustable Output Voltage, SO-8
pins: 1 VC, 2 FB, 3 NFB, 4 S/S, 5 Vin, 6 GNDS, 7 GND, 8 VSW

## LT1372HVCN8
designator *  value LT1372HVCN8  Reference: U
1.5A High Efficiency Switching Regulators, 500kHz, 42V Switch Voltage, Adjustable Output Voltage, DIP-8; ki_keywords: Switching Regulator Adjustable; ki_fp_filters: DIP*W7.62mm*; Footprint: Package_DIP:DIP-8_W7.62mm; Datasheet: https://www.analog.com/media/en/technical-documentation/data-sheets/13727fbs.pdf; Description_: 1.5A High Efficiency Switching Regulators, 500kHz, 42V Switch Voltage, Adjustable Output Voltage, DIP-8
pins: 1 VC, 2 FB, 3 NFB, 4 S/S, 5 Vin, 6 GNDS, 7 GND, 8 VSW

## LT1372HVCS8
designator *  value LT1372HVCS8  Reference: U
1.5A High Efficiency Switching Regulators, 500kHz, 42V Switch Voltage, Adjustable Output Voltage, SO-8; ki_keywords: Switching Regulator Adjustable; ki_fp_filters: SOIC*3.9x4.9mm*P1.27mm*; Footprint: Package_SO:SOIC-8_3.9x4.9mm_P1.27mm; Datasheet: https://www.analog.com/media/en/technical-documentation/data-sheets/13727fbs.pdf; Description_: 1.5A High Efficiency Switching Regulators, 500kHz, 42V Switch Voltage, Adjustable Output Voltage, SO-8
pins: 1 VC, 2 FB, 3 NFB, 4 S/S, 5 Vin, 6 GNDS, 7 GND, 8 VSW

## LT1373CN8
designator *  value LT1373CN8  Reference: U
1.5A Low Supply Current High Efficiency Switching Regulators, 250kHz, 35V Switch Voltage, Adjustable Output Voltage, DIP-8; ki_keywords: Switching Regulator Adjustable; ki_fp_filters: DIP*W7.62mm*; Footprint: Package_DIP:DIP-8_W7.62mm; Datasheet: https://www.analog.com/media/en/technical-documentation/data-sheets/1373fbs.pdf; Description_: 1.5A Low Supply Current High Efficiency Switching Regulators, 250kHz, 35V Switch Voltage, Adjustable Output Voltage, DIP-8
pins: 1 VC, 2 FB, 3 NFB, 4 S/S, 5 Vin, 6 GNDS, 7 GND, 8 VSW

## LT1373CS8
designator *  value LT1373CS8  Reference: U
1.5A Low Supply Current High Efficiency Switching Regulators, 250kHz, 35V Switch Voltage, Adjustable Output Voltage, SO-8; ki_keywords: Switching Regulator Adjustable; ki_fp_filters: SOIC*3.9x4.9mm*P1.27mm*; Footprint: Package_SO:SOIC-8_3.9x4.9mm_P1.27mm; Datasheet: https://www.analog.com/media/en/technical-documentation/data-sheets/1373fbs.pdf; Description_: 1.5A Low Supply Current High Efficiency Switching Regulators, 250kHz, 35V Switch Voltage, Adjustable Output Voltage, SO-8
pins: 1 VC, 2 FB, 3 NFB, 4 S/S, 5 Vin, 6 GNDS, 7 GND, 8 VSW

## LT1373HVCN8
designator *  value LT1373HVCN8  Reference: U
1.5A Low Supply Current High Efficiency Switching Regulators, 250kHz, 42V Switch Voltage, Adjustable Output Voltage, DIP-8; ki_keywords: Switching Regulator Adjustable; ki_fp_filters: DIP*W7.62mm*; Footprint: Package_DIP:DIP-8_W7.62mm; Datasheet: https://www.analog.com/media/en/technical-documentation/data-sheets/1373fbs.pdf; Description_: 1.5A Low Supply Current High Efficiency Switching Regulators, 250kHz, 42V Switch Voltage, Adjustable Output Voltage, DIP-8
pins: 1 VC, 2 FB, 3 NFB, 4 S/S, 5 Vin, 6 GNDS, 7 GND, 8 VSW

## LT1373HVCS8
designator *  value LT1373HVCS8  Reference: U
1.5A Low Supply Current High Efficiency Switching Regulators, 250kHz, 42V Switch Voltage, Adjustable Output Voltage, SO-8; ki_keywords: Switching Regulator Adjustable; ki_fp_filters: SOIC*3.9x4.9mm*P1.27mm*; Footprint: Package_SO:SOIC-8_3.9x4.9mm_P1.27mm; Datasheet: https://www.analog.com/media/en/technical-documentation/data-sheets/1373fbs.pdf; Description_: 1.5A Low Supply Current High Efficiency Switching Regulators, 250kHz, 42V Switch Voltage, Adjustable Output Voltage, SO-8
pins: 1 VC, 2 FB, 3 NFB, 4 S/S, 5 Vin, 6 GNDS, 7 GND, 8 VSW

## LT1377CN8
designator *  value LT1377CN8  Reference: U
1.5A High Efficiency Switching Regulators, 1MHz, 35V Switch Voltage, Adjustable Output Voltage, DIP-8; ki_keywords: Switching Regulator Adjustable; ki_fp_filters: DIP*W7.62mm*; Footprint: Package_DIP:DIP-8_W7.62mm; Datasheet: https://www.analog.com/media/en/technical-documentation/data-sheets/13727fbs.pdf; Description_: 1.5A High Efficiency Switching Regulators, 1MHz, 35V Switch Voltage, Adjustable Output Voltage, DIP-8
pins: 1 VC, 2 FB, 3 NFB, 4 S/S, 5 Vin, 6 GNDS, 7 GND, 8 VSW

## LT1377CS8
designator *  value LT1377CS8  Reference: U
1.5A High Efficiency Switching Regulators, 1MHz, 35V Switch Voltage, Adjustable Output Voltage, SO-8; ki_keywords: Switching Regulator Adjustable; ki_fp_filters: SOIC*3.9x4.9mm*P1.27mm*; Footprint: Package_SO:SOIC-8_3.9x4.9mm_P1.27mm; Datasheet: https://www.analog.com/media/en/technical-documentation/data-sheets/13727fbs.pdf; Description_: 1.5A High Efficiency Switching Regulators, 1MHz, 35V Switch Voltage, Adjustable Output Voltage, SO-8
pins: 1 VC, 2 FB, 3 NFB, 4 S/S, 5 Vin, 6 GNDS, 7 GND, 8 VSW

## LT1945
designator *  value LT1945  Reference: U
Dual Micropower DC/DC Converter with Positive and Negative Outputs, MSOP-10; ki_keywords: switched voltage converter regulator inverter double shutdown  positive negative; ki_fp_filters: MSOP*3x3mm*P0.5mm*; Footprint: Package_SO:MSOP-10_3x3mm_P0.5mm; Datasheet: https://www.analog.com/media/en/technical-documentation/data-sheets/1945fa.pdf; Description_: Dual Micropower DC/DC Converter with Positive and Negative Outputs, MSOP-10
pins: 1 NFB1, 2 ~{{SHDN1}}, 3 GND, 4 ~{{SHDN2}}, 5 FB2, 6 SW2, 7 PGND, 8 VIN, 9 PGND, 10 SW1

## LT3430
designator *  value LT3430  Reference: U
3A High Voltage 200kHz Step-Down Switching Regulator, TSSOP-16; ki_fp_filters: TSSOP*EP*4.4x5mm*P0.65mm*; Footprint: Package_SO:TSSOP-14-1EP_4.4x5mm_P0.65mm; Datasheet: https://www.analog.com/media/en/technical-documentation/data-sheets/34301fa.pdf; Description_: 3A High Voltage 200kHz Step-Down Switching Regulator, TSSOP-16; ki_keywords: Step-Down Switching Regulator
pins: 1 GND, 2 SW, 3 VIN, 4 VIN, 5 SW, 6 BOOST, 8 GND, 9 GND, 10 BIAS, 11 VC, 12 FB, 14 SYNC, 15 ~{{SHDN}}, 16 GND, 17 GND

## LT3430-1
designator *  value LT3430-1  Reference: U
3A High Voltage 100kHz Step-Down Switching Regulator, TSSOP-16; ki_fp_filters: TSSOP*EP*4.4x5mm*P0.65mm*; Footprint: Package_SO:TSSOP-14-1EP_4.4x5mm_P0.65mm; Datasheet: https://www.analog.com/media/en/technical-documentation/data-sheets/34301fa.pdf; Description_: 3A High Voltage 100kHz Step-Down Switching Regulator, TSSOP-16; ki_keywords: Step-Down Switching Regulator
pins: 1 GND, 2 SW, 3 VIN, 4 VIN, 5 SW, 6 BOOST, 8 GND, 9 GND, 10 BIAS, 11 VC, 12 FB, 14 SYNC, 15 ~{{SHDN}}, 16 GND, 17 GND